# Altium footprint library DCDC_Switcher.PcbLib: 10 footprints
Each footprint in its own frame and in the unit in brackets; x right, y up, seen from the top. Pads: shape width x height; smd on the part's side, far side on the other; paste and mask are expansions set on the pad; w line width, h text height; cw(c..) or ccw(c..) is an arc to the next point about the centre after c.
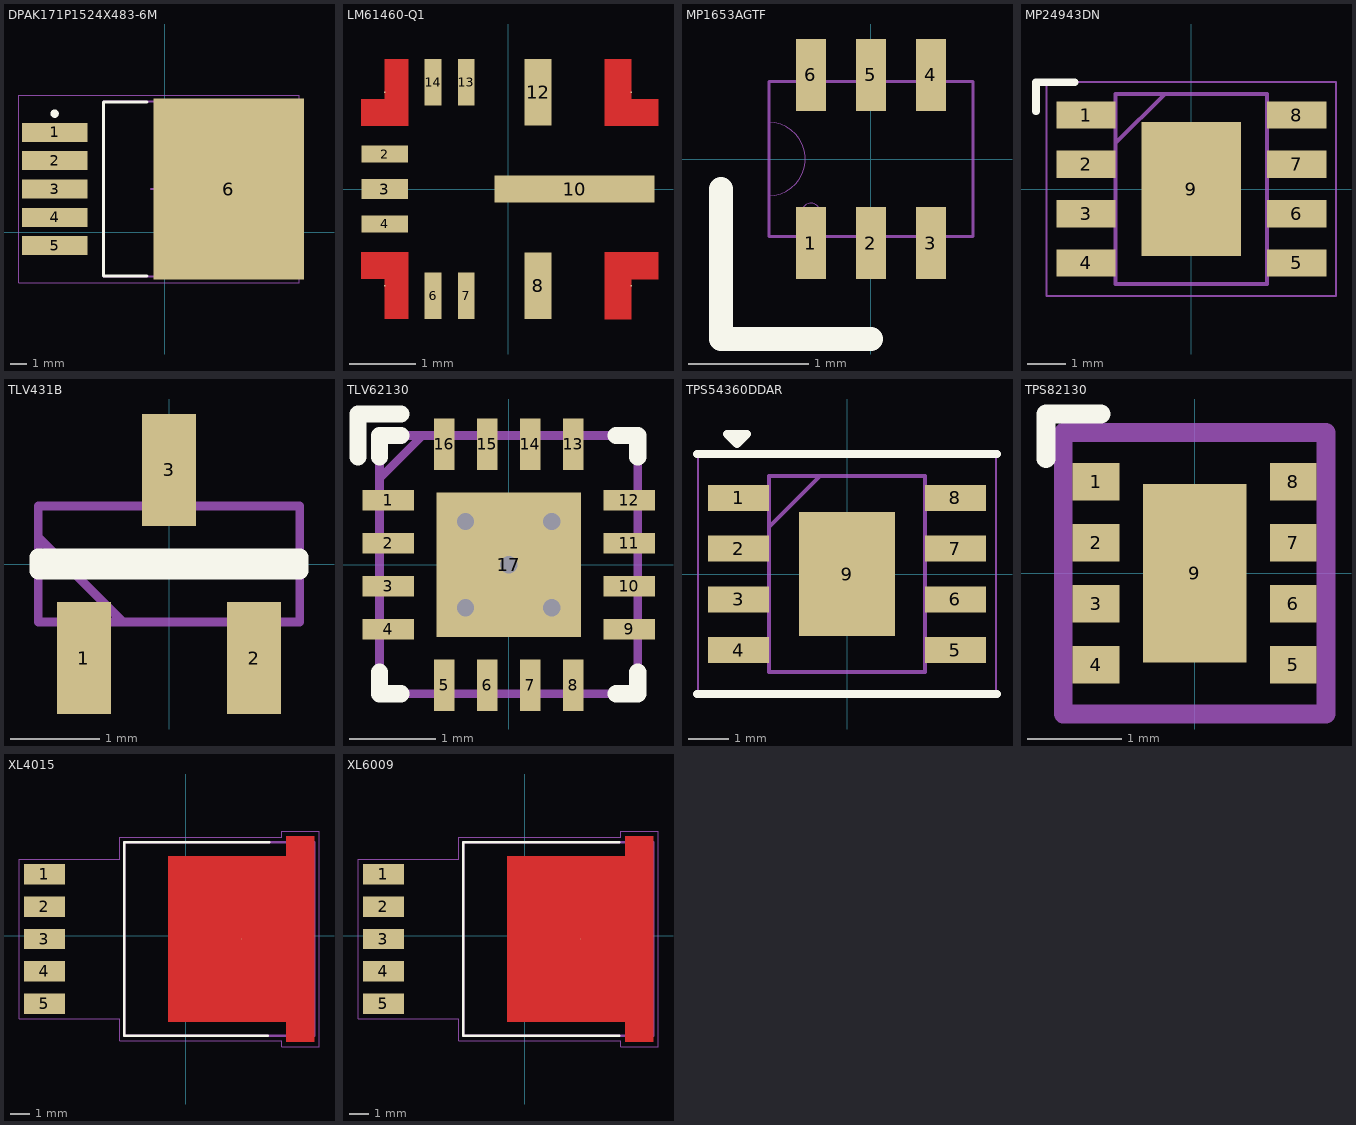
[diagram p0: the footprints below, top view; thin cyan lines are the x and y axes]

## DPAK171P1524X483-6M [mm] "D2-PAK, 6-Pads, Body 7.93x8.63mm (max), IPC Low Density"
height 4.83
pads (6):
  rect 3.95x1.15 smd: 1(-6.65,6.02) 2(-6.65,4.31) 3(-6.65,2.6) 4(-6.65,0.89) 5(-6.65,-0.82)
  rect 9.1x10.9 smd: 6(3.85,2.6)
Top Overlay:
  circle w0.25: c-6.65,7.145 r0.125
  lines w0.2: -1.1,-2.65 -3.7,-2.65 -3.7,7.85 -1.1,7.85
Mechanical 13:
  lines w0.1: -3.7,-2.675 5.95,-2.675 5.95,7.875 -3.7,7.875 -3.7,-2.675
Mechanical 15:
  lines w0.05: -8.8,-3.05 8.1,-3.05 8.1,8.25 -8.8,8.25 -8.8,-3.05
  lines w0.1: -0.85,2.6 0.15,2.6 ; -0.35,2.1 -0.35,3.1
3D body "step_temp.STEP": height 4.65, standoff 0, extent -7.525,-2.48 6.825,7.68

## LM61460-Q1 [mm] "LM61460-Q1 Automotive 3-V to 36-V, 6-A, Low EMI Synchronous Step-Down  / Converter"
height 1
pads (14):
  round 0.025 smd mask-2539.97: 1(-1.85,1.45) 5(-1.85,-1.45)
  rect 0.7x0.25 smd mask-2539.97: 2(-1.85,0.525) 4(-1.85,-0.525)
  rect 0.7x0.3 smd mask-2539.97: 3(-1.85,0)
  rect 0.25x0.7 smd mask-2539.97: 6(-1.125,-1.6) 7(-0.625,-1.6) 13(-0.625,1.6) 14(-1.125,1.6)
  rect 0.4x1 smd mask-2539.97: 8(0.45,-1.45) 12(0.45,1.45)
  round 0.025 smd mask+0.05: 9(1.85,-1.45) 11(1.85,1.45)
  rect 2.4x0.4 smd mask-2539.97: 10(1,0)
Top Layer:
  region: -2.2,0.95 -2.2,1.35 -1.85,1.35 -1.85,1.95 -1.5,1.95 -1.5,0.95
  region: -2.2,-0.95 -2.2,-1.35 -1.85,-1.35 -1.85,-1.95 -1.5,-1.95 -1.5,-0.95
  region: 1.45,0.95 1.45,1.95 1.85,1.95 1.85,1.35 2.25,1.35 2.25,0.95
  region: 1.45,-0.95 1.45,-1.95 1.85,-1.95 1.85,-1.35 2.25,-1.35 2.25,-0.95
Top Solder:
  region: -2.235,0.365 -2.235,0.685 -1.465,0.685 -1.465,0.365
  region: -2.2,-0.15 -2.2,0.15 -1.5,0.15 -1.5,-0.15
  region: -2.235,-0.15 -2.235,0.15 -1.465,0.15 -1.465,-0.15
  region: -2.235,-0.185 -2.235,0.185 -1.465,0.185 -1.465,-0.185
  region: -2.235,-0.685 -2.235,-0.365 -1.465,-0.365 -1.465,-0.685
  region: -1.285,-1.985 -1.285,-1.215 -0.965,-1.215 -0.965,-1.985
  region: -0.785,-1.985 -0.785,-1.215 -0.465,-1.215 -0.465,-1.985
  region: 0.215,-1.985 0.215,-0.915 0.685,-0.915 0.685,-1.985
  region: -0.235,-0.235 -0.235,0.235 2.235,0.235 2.235,-0.235
  region: 0.215,0.915 0.215,1.985 0.685,1.985 0.685,0.915
  region: -0.785,1.215 -0.785,1.985 -0.465,1.985 -0.465,1.215
  region: -1.285,1.215 -1.285,1.985 -0.965,1.985 -0.965,1.215
  region: -2.25,0.95 -2.25,0.94 -2.242,0.922 -2.228,0.908 -2.21,0.9 -2.2,0.9 -1.5,0.9 -1.49,0.9 -1.472,0.908 -1.458,0.922 -1.45,0.94 -1.45,0.95 -1.45,1.95 -1.45,1.96 -1.458,1.978 -1.472,1.992 -1.49,2 -1.5,2 -1.85,2 -1.86,2 -1.878,1.992 -1.892,1.978 -1.9,1.96 -1.9,1.95 -1.9,1.4 -2.2,1.4 -2.21,1.4 -2.228,1.392 -2.242,1.378 -2.25,1.36 -2.25,1.35
  region: -2.25,-0.95 -2.25,-0.94 -2.242,-0.922 -2.228,-0.908 -2.21,-0.9 -2.2,-0.9 -1.5,-0.9 -1.49,-0.9 -1.472,-0.908 -1.458,-0.922 -1.45,-0.94 -1.45,-0.95 -1.45,-1.95 -1.45,-1.96 -1.458,-1.978 -1.472,-1.992 -1.49,-2 -1.5,-2 -1.85,-2 -1.86,-2 -1.878,-1.992 -1.892,-1.978 -1.9,-1.96 -1.9,-1.95 -1.9,-1.4 -2.2,-1.4 -2.21,-1.4 -2.228,-1.392 -2.242,-1.378 -2.25,-1.36 -2.25,-1.35
3D body "LM61430AFSQRJRRQ1.STEP": height 1, standoff 0, extent -2,-1.75 2,1.75

## MP1653AGTF [mm] "17V, 3A, 1.2MHZ, 0.6V VREF, FCCM"
pads (6):
  rect 0.25x0.6 smd paste+0 mask+0: 1(-0.5,-0.7) 2(0,-0.7) 3(0.5,-0.7) 4(0.5,0.7) 5(0,0.7) 6(-0.5,0.7)
Top Overlay:
  lines w0.2: -1.25,-0.25 -1.25,-1.5 0,-1.5
Mechanical 13:
  circle w0: c-0.5,-0.444 r0.076
  lines w0: -0.851,-0.305 ccw(c-0.851,0) -0.851,0.305
  lines w0.025: -0.851,-0.648 0.851,-0.648 0.851,0.648 -0.851,0.648 -0.851,-0.648
3D body "SOT563_MP1653A_MNP.step": height 0.56, standoff 0, extent -0.851,-0.851 0.851,0.851

## MP24943DN [mm] "IC REG BUCK ADJ 3A 8SOIC"
pads (9):
  rect 1.525x0.7 smd: 1(-2.712,1.905) 2(-2.712,0.635) 3(-2.712,-0.635) 4(-2.712,-1.905) 5(2.712,-1.905) 6(2.712,-0.635) 7(2.712,0.635) 8(2.712,1.905)
  rect 2.56x3.45 smd: 9(0,0)
Top Overlay:
  lines w0.2: -4,2 -4,2.75 -3,2.75
Mechanical 13:
  lines w0.1: -1.95,1.18 -0.68,2.45 ; -1.95,-2.45 -1.95,2.45 1.95,2.45 1.95,-2.45 -1.95,-2.45
Mechanical 15:
  lines w0.05: -3.725,-2.75 -3.725,2.75 3.725,2.75 3.725,-2.75 -3.725,-2.75
3D body "MP24943DN-LF-Z.stp": height 1.7, standoff 0, extent -3,-2.45 3,2.45

## TLV431B [mm] "1.24V~6V 1.24V~6V 15mA 80uA 80uA Adjustable Parallel ±0.5% SOT-23-3 Voltage Reference ROHS"
pads (3):
  rect 0.6x1.25 smd: 1(-0.95,-1.05) 2(0.95,-1.05) 3(0,1.05)
Top Overlay:
  lines w0.2: -1.46,-0.075 -1.46,0.075 1.46,0.075 1.46,-0.075 -1.46,-0.075
Mechanical 13:
  lines w0.1: -1.46,0.3 -0.51,-0.65 ; -1.46,-0.65 -1.46,0.65 1.46,0.65 1.46,-0.65 -1.46,-0.65
3D body "TLV431BQDBZR.stp": height 1, standoff 0, extent -1.46,-1.27 1.46,1.27

## TLV62130 [mm] "TLV62130x 3-V to 17-V 3-A Step-Down Converter In 3x3 QFN Package"
pads (17):
  rect 0.6x0.24 smd mask-2539.97: 1(-1.4,0.75) 2(-1.4,0.25) 3(-1.4,-0.25) 4(-1.4,-0.75) 9(1.4,-0.75) 10(1.4,-0.25) 11(1.4,0.25) 12(1.4,0.75)
  rect 0.24x0.6 smd mask-2539.97: 5(-0.75,-1.4) 6(-0.25,-1.4) 7(0.25,-1.4) 8(0.75,-1.4) 13(0.75,1.4) 14(0.25,1.4) 15(-0.25,1.4) 16(-0.75,1.4)
  rect 1.68x1.68 smd mask-2539.97: 17(0,0)
via -0.5,-0.5 diameter 0.4 hole 0.2
via 0.5,-0.5 diameter 0.4 hole 0.2
via 0.5,0.5 diameter 0.4 hole 0.2
via -0.5,0.5 diameter 0.4 hole 0.2
via 0,0 diameter 0.4 hole 0.2
Top Overlay:
  lines w0.2: -1.75,1.25 -1.75,1.75 -1.25,1.75 ; -1.5,-1.25 -1.5,-1.5 -1.25,-1.5 ; -1.5,1.25 -1.5,1.5 -1.25,1.5 ; 1.25,-1.5 1.5,-1.5 1.5,-1.25 ; 1.25,1.5 1.5,1.5 1.5,1.25
Top Solder:
  region: -1.735,0.595 -1.735,0.905 -1.065,0.905 -1.065,0.595
  region: -1.735,0.095 -1.735,0.405 -1.065,0.405 -1.065,0.095
  region: -1.735,-0.405 -1.735,-0.095 -1.065,-0.095 -1.065,-0.405
  region: -1.735,-0.905 -1.735,-0.595 -1.065,-0.595 -1.065,-0.905
  region: -0.905,-1.735 -0.905,-1.065 -0.595,-1.065 -0.595,-1.735
  region: -0.405,-1.735 -0.405,-1.065 -0.095,-1.065 -0.095,-1.735
  region: 0.095,-1.735 0.095,-1.065 0.405,-1.065 0.405,-1.735
  region: 0.595,-1.735 0.595,-1.065 0.905,-1.065 0.905,-1.735
  region: 1.065,-0.905 1.065,-0.595 1.735,-0.595 1.735,-0.905
  region: 1.065,-0.405 1.065,-0.095 1.735,-0.095 1.735,-0.405
  region: 1.065,0.095 1.065,0.405 1.735,0.405 1.735,0.095
  region: 1.065,0.595 1.065,0.905 1.735,0.905 1.735,0.595
  region: 0.595,1.065 0.595,1.735 0.905,1.735 0.905,1.065
  region: 0.095,1.065 0.095,1.735 0.405,1.735 0.405,1.065
  region: -0.405,1.065 -0.405,1.735 -0.095,1.735 -0.095,1.065
  region: -0.905,1.065 -0.905,1.735 -0.595,1.735 -0.595,1.065
  region: -0.875,-0.875 -0.875,0.875 0.875,0.875 0.875,-0.875
Mechanical 13:
  lines w0.1: -1.5,1 -1,1.5 ; -1.5,-1.5 1.5,-1.5 1.5,1.5 -1.5,1.5 -1.5,-1.5
Mechanical 15:
  lines w0.05: -1.5,-1.5 -1.5,1.5 1.5,1.5 1.5,-1.5 -1.5,-1.5
3D body "TLV62130RGTR.stp": height 1, standoff 0, extent -1.5,-1.5 1.5,1.5

## TPS54360DDAR [mm]
pads (9):
  rect 1.525x0.65 smd: 1(-2.712,1.905) 2(-2.712,0.635) 3(-2.712,-0.635) 4(-2.712,-1.905) 5(2.712,-1.905) 6(2.712,-0.635) 7(2.712,0.635) 8(2.712,1.905)
  rect 2.4x3.1 smd: 9(0,0)
Top Overlay:
  lines w0.2: -3.75,-3 3.75,-3 ; -3.75,3 3.75,3 ; -2.75,3.25 -3,3.5 -2.5,3.5 -2.75,3.25 ; -2.75,3.25 -2.75,3.25
Mechanical 13:
  lines w0.1: -1.95,1.18 -0.68,2.45 ; -1.95,-2.45 1.95,-2.45 1.95,2.45 -1.95,2.45 -1.95,-2.45
Mechanical 15:
  lines w0.05: -3.725,-3 3.725,-3 3.725,3 -3.725,3 -3.725,-3
3D body "TPS54360DDA.stp": height 1.7, standoff 0, extent -3,-2.45 3,2.45

## TPS82130 [mm] "1.5mm 2.8mm 20uA 2MHz 3A 3V~17V 3mm 900mV~6V Buck Over Temperature Protection ±1.5% USIP-8 DC-DC Power Modules ROHS"
pads (9):
  rect 0.5x0.4 smd mask+0.05: 1(-1.05,0.975) 2(-1.05,0.325) 3(-1.05,-0.325) 4(-1.05,-0.975) 5(1.05,-0.975) 6(1.05,-0.325) 7(1.05,0.325) 8(1.05,0.975)
  rect 1.1x1.9 smd mask+0.05: 9(0,0)
Top Overlay:
  lines w0.2: -1.585,1.22 -1.585,1.697 -1,1.697
Mechanical 13:
  lines w0.2: -1.4,-1.5 1.4,-1.5 1.4,1.5 -1.4,1.5 -1.4,-1.5
3D body "TPS82130SILR.stp": height 1.31, standoff 0, extent -1.4,-1.5 1.4,1.5

## XL4015 [mm] "5A 180KHz 36V Buck DC to DC Converter"
pads (6):
  rect 2.16x1.07 smd: 1(-7.422,3.238) 2(-7.422,1.538) 3(-7.422,-0.162) 4(-7.422,-1.862) 5(-7.422,-3.562)
  round 0.025 smd: 6(2.913,-0.162)
Top Layer:
  region: 6.748,-5.562 5.278,-5.562 5.278,-4.512 -0.922,-4.512 -0.922,4.188 5.278,4.188 5.278,5.238 6.748,5.238
Top Overlay:
  lines w0.127: 4.3,-5.242 -3.222,-5.242 -3.222,4.918 4.4,4.918
Top Paste:
  region: 6.113,0.718 3.513,0.718 3.513,3.318 6.113,3.318
  region: 2.313,-3.642 -0.287,-3.642 -0.287,-1.042 2.313,-1.042
  region: 6.113,-3.642 3.513,-3.642 3.513,-1.042 6.113,-1.042
  region: 2.313,0.718 -0.287,0.718 -0.287,3.318 2.313,3.318
Top Solder:
  region: 6.848,-5.662 5.178,-5.662 5.178,-4.612 -1.022,-4.612 -1.022,4.288 5.178,4.288 5.178,5.338 6.848,5.338
Mechanical 13:
  lines w0.127: -3.222,-5.242 -3.222,4.918 6.748,4.918 6.748,-5.242 -3.222,-5.242
Mechanical 15:
  lines w0.05: -8.752,-4.347 -8.752,4.023 -3.472,4.023 -3.472,5.168 5.033,5.168 5.033,5.488 6.998,5.488 6.998,-5.812 5.033,-5.812 5.033,-5.492 -3.472,-5.492 -3.472,-4.347 -8.752,-4.347
3D body "XL4015--3DModel-STEP-56544.STEP": height 4.83, standoff 0, extent -7.8,-5.18 6.86,4.98

## XL6009 [mm]
pads (6):
  rect 2.16x1.07 smd: 1(-7.422,3.238) 2(-7.422,1.538) 3(-7.422,-0.162) 4(-7.422,-1.862) 5(-7.422,-3.562)
  round 0.025 smd: 6(2.913,-0.162)
Top Layer:
  region: 6.748,-5.562 5.278,-5.562 5.278,-4.512 -0.922,-4.512 -0.922,4.188 5.278,4.188 5.278,5.238 6.748,5.238
Top Overlay:
  lines w0.127: 4.963,-5.242 -3.222,-5.242 -3.222,4.918 4.963,4.918
Top Paste:
  region: 6.113,0.718 3.513,0.718 3.513,3.318 6.113,3.318
  region: 2.313,-3.642 -0.287,-3.642 -0.287,-1.042 2.313,-1.042
  region: 6.113,-3.642 3.513,-3.642 3.513,-1.042 6.113,-1.042
  region: 2.313,0.718 -0.287,0.718 -0.287,3.318 2.313,3.318
Top Solder:
  region: 6.848,-5.662 5.178,-5.662 5.178,-4.612 -1.022,-4.612 -1.022,4.288 5.178,4.288 5.178,5.338 6.848,5.338
Mechanical 13:
  lines w0.127: -3.222,-5.242 -3.222,4.918 6.748,4.918 6.748,-5.242 -3.222,-5.242
Mechanical 15:
  lines w0.05: -8.752,-4.347 -8.752,4.023 -3.472,4.023 -3.472,5.168 5.033,5.168 5.033,5.488 6.998,5.488 6.998,-5.812 5.033,-5.812 5.033,-5.492 -3.472,-5.492 -3.472,-4.347 -8.752,-4.347
3D body "XL4015--3DModel-STEP-56544.STEP": height 4.83, standoff 0, extent -7.8,-5.18 6.86,4.98